# Altium integrated library Lattice iCE40.IntLib: 53 symbols (part 4 of 5)
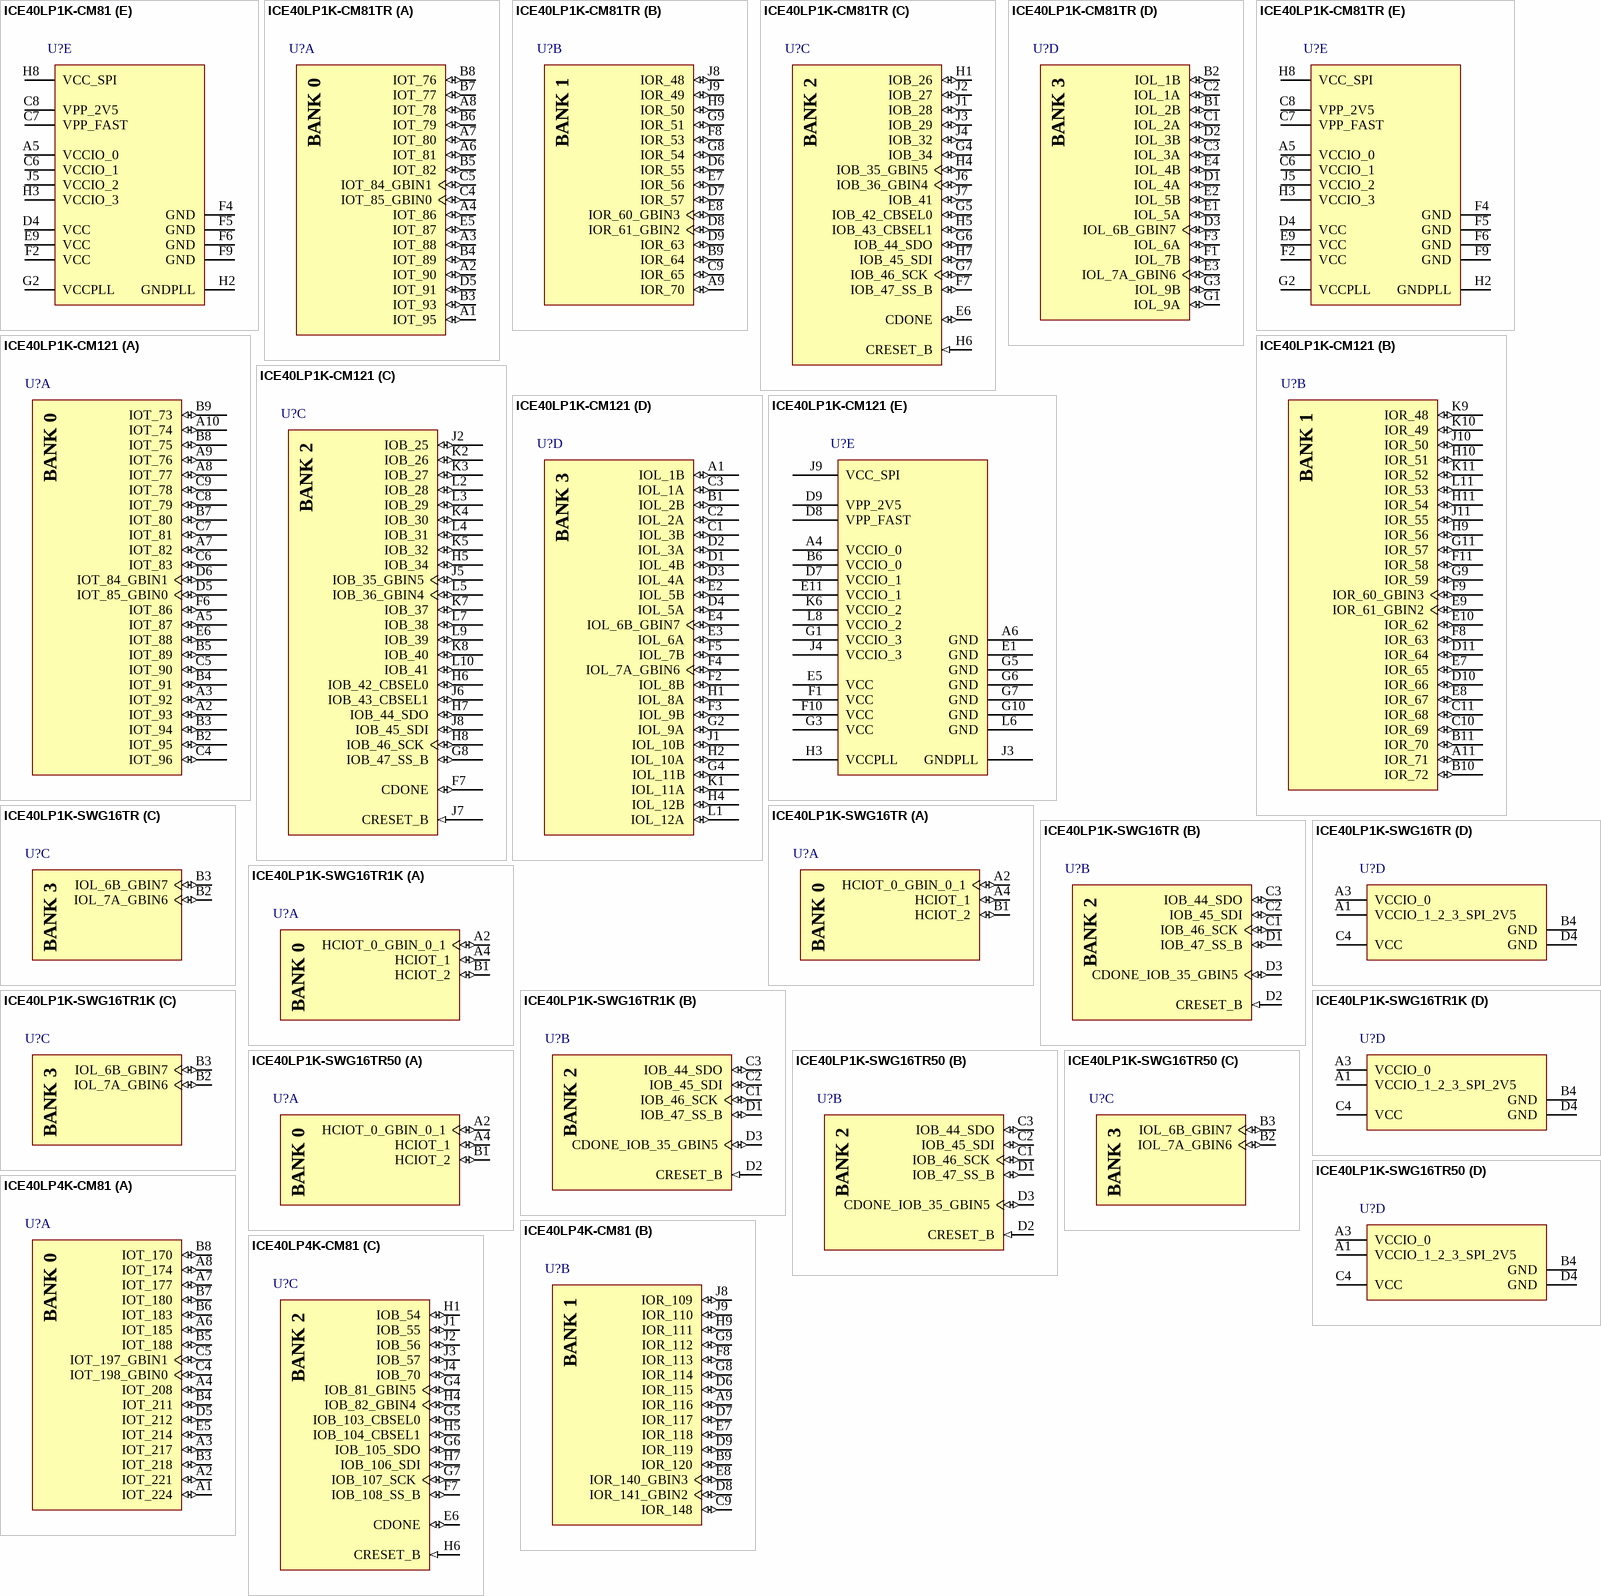
[diagram p14: symbols ICE40LP1K-CM81 to ICE40LP4K-CM81]

## ICE40LP1K-CM121
designator U?
iCE40 LP1K Series FPGA Family, 1280 Logic Cells, 1.2 V Core, 64 K Embedded RAM Bits, 121-ball ucBGA, Pb-Free, Tray; Manufacturer: Lattice Semiconductor; PartNumber: ICE40LP1K-CM121; Embedded RAM Bits: 64K; Logic Cells: 1280; Phase-Locked Loops: 1; Supply Voltage: 1.2 V; DatasheetVersion: Rev. 02.9; PackageVersion: Rev. 03.9, 02/2013; PackageReference: ucBGA-121; PackageDescription: 121-Ball Ultra Chip Ball Grid Array, Body 5 x 5 mm, Pitch 0.4 mm; Supplier 1: Digi-Key; Supplier Part Number 1: 220-1560-ND; Supplier 2: Farnell; Supplier Part Number 2: 2252860; Supplier 3: Newark; Supplier Part Number 3: 48W5880; Supplier 4: Mouser; Supplier Part Number 4: 842-ICE40LP1K-CM121; Packing: Tray; RoHS: TRUE; Mounting Technology: Surface Mount; ComponentLink1Description: Manufacturer URL; ComponentLink1URL: http://www.latticesemi.com/en; ComponentLink2Description: Datasheet; ComponentLink2URL: http://www.latticesemi.com/~/media/Documents/DataSheets/iCE/iCE40LPHXFamilyDataSheet.pdf; ComponentLink3Description: Package Specification; ComponentLink3URL: http://www.latticesemi.com/lit/docs/package/pkg.pdf
footprint LATC-ucBGA-121 (BGA, 121-Balls, Body 5x5mm, Pitch 0.4mm)
part A pins: A2 IOT_93 (io), A3 IOT_92 (io), A5 IOT_87 (io), A7 IOT_82 (io), A8 IOT_77 (io), A9 IOT_76 (io), A10 IOT_74 (io), B2 IOT_95 (io), B3 IOT_94 (io), B4 IOT_91 (io), B5 IOT_89 (io), B7 IOT_80 (io), B8 IOT_75 (io), B9 IOT_73 (io), C4 IOT_96 (io), C5 IOT_90 (io), C6 IOT_83 (io), C7 IOT_81 (io), C8 IOT_79 (io), C9 IOT_78 (io), D5 IOT_85_GBIN0 (io), D6 IOT_84_GBIN1 (io), E6 IOT_88 (io), F6 IOT_86 (io)
part B pins: A11 IOR_71 (io), B10 IOR_72 (io), B11 IOR_70 (io), C10 IOR_69 (io), C11 IOR_68 (io), D10 IOR_66 (io), D11 IOR_64 (io), E7 IOR_65 (io), E8 IOR_67 (io), E9 IOR_61_GBIN2 (io), E10 IOR_62 (io), F8 IOR_63 (io), F9 IOR_60_GBIN3 (io), F11 IOR_58 (io), G9 IOR_59 (io), G11 IOR_57 (io), H9 IOR_56 (io), H10 IOR_51 (io), H11 IOR_54 (io), J10 IOR_50 (io), J11 IOR_55 (io), K9 IOR_48 (io), K10 IOR_49 (io), K11 IOR_52 (io), L11 IOR_53 (io)
part C pins: F7 CDONE (io) "Configuration Done. Includes a permanent weak pull-up resistor to VCCIO_2. If driving external devices with CDONE output, an external pull-up resistor to VCCIO_2 may be required. Refer to the TN1248, iCE40 Programming and (See Datasheet)", G8 IOB_47_SS_B (io), H5 IOB_34 (io), H6 IOB_42_CBSEL0 (io), H7 IOB_44_SDO (io), H8 IOB_46_SCK (io), J2 IOB_25 (io), J5 IOB_35_GBIN5 (io), J6 IOB_43_CBSEL1 (io), J7 CRESET_B (in) "Configuration Reset, active Low. Dedicated input. No internal pull-up resistor. Either actively drive externally or connect a 10 KOhm pull-up resistor to VCCIO_2.", J8 IOB_45_SDI (io), K2 IOB_26 (io), K3 IOB_27 (io), K4 IOB_30 (io), K5 IOB_32 (io), K7 IOB_37 (io), K8 IOB_40 (io), L2 IOB_28 (io), L3 IOB_29 (io), L4 IOB_31 (io), L5 IOB_36_GBIN4 (io), L7 IOB_38 (io), L9 IOB_39 (io), L10 IOB_41 (io)
part D pins: A1 IOL_1B (io), B1 IOL_2B (io), C1 IOL_3B (io), C2 IOL_2A (io), C3 IOL_1A (io), D1 IOL_4B (io), D2 IOL_3A (io), D3 IOL_4A (io), D4 IOL_5A (io), E2 IOL_5B (io), E3 IOL_6A (io), E4 IOL_6B_GBIN7 (io), F2 IOL_8B (io), F3 IOL_9B (io), F4 IOL_7A_GBIN6 (io), F5 IOL_7B (io), G2 IOL_9A (io), G4 IOL_11B (io), H1 IOL_8A (io), H2 IOL_10A (io), H4 IOL_12B (io), J1 IOL_10B (io), K1 IOL_11A (io), L1 IOL_12A (io)
part E pins: A4 VCCIO_0 (power) "VCCIO - The power supply pins for I/O Bank 0. Dedicated pins. All VCCIOs located in the same bank are tied to the same supply.", A6 GND (power) "GND - Ground. Dedicated pins. It is recommended that all GNDs are tied together.", B6 VCCIO_0 (power) "VCCIO - The power supply pins for I/O Bank 0. Dedicated pins. All VCCIOs located in the same bank are tied to the same supply.", D7 VCCIO_1 (power) "VCCIO - The power supply pins for I/O Bank 1. Dedicated pins. All VCCIOs located in the same bank are tied to the same supply.", D8 VPP_FAST (power) "Optional fast NVCM programming supply. VPP_FAST, used only for fast production programming, must be left floating or unconnected in applications, except CM36 and CM49 packages MUST have the VPP_FAST ball connected to VCCIO_0 (See Datasheet)", D9 VPP_2V5 (power) "VPP_2V5 NVCM programming and operating supply", E1 GND (power) "GND - Ground. Dedicated pins. It is recommended that all GNDs are tied together.", E5 VCC (power) "VCC - The power supply pins for core logic. Dedicated pins. It is recommended that all VCCs are tied to the same supply.", E11 VCCIO_1 (power) "VCCIO - The power supply pins for I/O Bank 1. Dedicated pins. All VCCIOs located in the same bank are tied to the same supply.", F1 VCC (power) "VCC - The power supply pins for core logic. Dedicated pins. It is recommended that all VCCs are tied to the same supply.", F10 VCC (power) "VCC - The power supply pins for core logic. Dedicated pins. It is recommended that all VCCs are tied to the same supply.", G1 VCCIO_3 (power) "VCCIO - The power supply pins for I/O Bank 3. Dedicated pins. All VCCIOs located in the same bank are tied to the same supply.", G3 VCC (power) "VCC - The power supply pins for core logic. Dedicated pins. It is recommended that all VCCs are tied to the same supply.", G5 GND (power) "GND - Ground. Dedicated pins. It is recommended that all GNDs are tied together.", G6 GND (power) "GND - Ground. Dedicated pins. It is recommended that all GNDs are tied together.", G7 GND (power) "GND - Ground. Dedicated pins. It is recommended that all GNDs are tied together.", G10 GND (power) "GND - Ground. Dedicated pins. It is recommended that all GNDs are tied together.", H3 VCCPLL (power) "PLL VCC - Power. Dedicated pins. The PLL requires a separate power and ground that is quiet and stable to reduce the output clock jitter of the PLL.", J3 GNDPLL (power) "PLL GND - Ground. Dedicated pins. The sysCLOCK PLL has the DC ground connection made on the FPGA, so the external PLL ground connection (GNDPLL) must NOT be connected to the board’s ground.", J4 VCCIO_3 (power) "VCCIO - The power supply pins for I/O Bank 3. Dedicated pins. All VCCIOs located in the same bank are tied to the same supply.", J9 VCC_SPI (power) "SPI interface voltage supply input. Must have a valid voltage even if configuring from NVCM.", K6 VCCIO_2 (power) "VCCIO - The power supply pins for I/O Bank 2. Dedicated pins. All VCCIOs located in the same bank are tied to the same supply.", L6 GND (power) "GND - Ground. Dedicated pins. It is recommended that all GNDs are tied together.", L8 VCCIO_2 (power) "VCCIO - The power supply pins for I/O Bank 2. Dedicated pins. All VCCIOs located in the same bank are tied to the same supply."
part A text: BANK 0
part B text: BANK 1
part C text: BANK 2
part D text: BANK 3

## ICE40LP1K-SWG16TR
designator U?
iCE40 LP1K Series FPGA Family, 1280 Logic Cells, 1.2 V Core, 64 K Embedded RAM Bits, 16-ball WLCSP, Pb-Free, Tape and Reel; Manufacturer: Lattice Semiconductor; PartNumber: ICE40LP1K-SWG16TR; Embedded RAM Bits: 64K; Logic Cells: 1280; Phase-Locked Loops: 1; Supply Voltage: 1.2 V; DatasheetVersion: Rev. 02.9; PackageVersion: Rev. 04.2, 12/2013; PackageReference: WLCSP-16; PackageDescription: 16-Ball Wafer-Level Chip Scale Package, Body 1.4 x 1.48 mm, Pitch 0.35 mm; Supplier 1: Digi-Key; Supplier Part Number 1: ICE40LP1K-SWG16TR-ND; Supplier 2: Mouser; Supplier Part Number 2: 842-ICE40LP1KSWG16TR; Packing: Tape and Reel; RoHS: TRUE; Mounting Technology: Surface Mount; ComponentLink1Description: Manufacturer URL; ComponentLink1URL: http://www.latticesemi.com/en; ComponentLink2Description: Datasheet; ComponentLink2URL: http://www.latticesemi.com/~/media/Documents/DataSheets/iCE/iCE40LPHXFamilyDataSheet.pdf; ComponentLink3Description: Package Specification; ComponentLink3URL: http://www.latticesemi.com/~/media/Documents/DataSheets/PackageDiagrams.pdf
footprint LATC-WLCSP-16 (BGA, 16-Balls, Body 1.48x1.4mm, Pitch 0.35mm)
part A pins: A2 HCIOT_0_GBIN_0_1 (io), A4 HCIOT_1 (io) "High Current IO.", B1 HCIOT_2 (io) "High Current IO."
part B pins: C1 IOB_46_SCK (io), C2 IOB_45_SDI (io), C3 IOB_44_SDO (io), D1 IOB_47_SS_B (io), D2 CRESET_B (in) "Configuration Reset, active Low. Dedicated input. No internal pull-up resistor. Either actively drive externally or connect a 10 KOhm pull-up resistor to VCCIO_2.", D3 CDONE_IOB_35_GBIN5 (io)
part C pins: B2 IOL_7A_GBIN6 (io), B3 IOL_6B_GBIN7 (io)
part D pins: A1 VCCIO_1_2_3_SPI_2V5 (power), A3 VCCIO_0 (power) "VCCIO - The power supply pins for I/O Bank 0. Dedicated pins. All VCCIOs located in the same bank are tied to the same supply.", B4 GND (power) "GND - Ground. Dedicated pins. It is recommended that all GNDs are tied together", C4 VCC (power) "VCC - The power supply pins for core logic. Dedicated pins. It is recommended that all VCCs are tied to the same supply.", D4 GND (power) "GND - Ground. Dedicated pins. It is recommended that all GNDs are tied together"
part A text: BANK 0
part B text: BANK 2
part C text: BANK 3

## ICE40LP1K-SWG16TR1K
designator U?
iCE40 LP1K Series FPGA Family, 1280 Logic Cells, 1.2 V Core, 64 K Embedded RAM Bits, 16-ball WLCSP, Pb-Free, Tape and Reel; Manufacturer: Lattice Semiconductor; PartNumber: ICE40LP1K-SWG16TR1K; Embedded RAM Bits: 64K; Logic Cells: 1280; Phase-Locked Loops: 1; Supply Voltage: 1.2 V; DatasheetVersion: Rev. 02.9; PackageVersion: Rev. 04.2, 12/2013; PackageReference: WLCSP-16; PackageDescription: 16-Ball Wafer-Level Chip Scale Package, Body 1.4 x 1.48 mm, Pitch 0.35 mm; Supplier 1: Digi-Key; Supplier Part Number 1: ICE40LP1K-SWG16TR1K-ND; Supplier 2: Mouser; Supplier Part Number 2: 842-E40LP1KSWG16TR1K; Packing: Tape and Reel; RoHS: TRUE; Mounting Technology: Surface Mount; ComponentLink1Description: Manufacturer URL; ComponentLink1URL: http://www.latticesemi.com/en; ComponentLink2Description: Datasheet; ComponentLink2URL: http://www.latticesemi.com/~/media/Documents/DataSheets/iCE/iCE40LPHXFamilyDataSheet.pdf; ComponentLink3Description: Package Specification; ComponentLink3URL: http://www.latticesemi.com/~/media/Documents/DataSheets/PackageDiagrams.pdf
footprint LATC-WLCSP-16 (BGA, 16-Balls, Body 1.48x1.4mm, Pitch 0.35mm)
part A pins: A2 HCIOT_0_GBIN_0_1 (io), A4 HCIOT_1 (io) "High Current IO.", B1 HCIOT_2 (io) "High Current IO."
part B pins: C1 IOB_46_SCK (io), C2 IOB_45_SDI (io), C3 IOB_44_SDO (io), D1 IOB_47_SS_B (io), D2 CRESET_B (in) "Configuration Reset, active Low. Dedicated input. No internal pull-up resistor. Either actively drive externally or connect a 10 KOhm pull-up resistor to VCCIO_2.", D3 CDONE_IOB_35_GBIN5 (io)
part C pins: B2 IOL_7A_GBIN6 (io), B3 IOL_6B_GBIN7 (io)
part D pins: A1 VCCIO_1_2_3_SPI_2V5 (power), A3 VCCIO_0 (power) "VCCIO - The power supply pins for I/O Bank 0. Dedicated pins. All VCCIOs located in the same bank are tied to the same supply.", B4 GND (power) "GND - Ground. Dedicated pins. It is recommended that all GNDs are tied together", C4 VCC (power) "VCC - The power supply pins for core logic. Dedicated pins. It is recommended that all VCCs are tied to the same supply.", D4 GND (power) "GND - Ground. Dedicated pins. It is recommended that all GNDs are tied together"
part A text: BANK 0
part B text: BANK 2
part C text: BANK 3

## ICE40LP1K-SWG16TR50
designator U?
iCE40 LP1K Series FPGA Family, 1280 Logic Cells, 1.2 V Core, 64 K Embedded RAM Bits, 16-ball WLCSP, Pb-Free, Tape and Reel; Manufacturer: Lattice Semiconductor; PartNumber: ICE40LP1K-SWG16TR50; Embedded RAM Bits: 64K; Logic Cells: 1280; Phase-Locked Loops: 1; Supply Voltage: 1.2 V; DatasheetVersion: Rev. 02.9; PackageVersion: Rev. 04.2, 12/2013; PackageReference: WLCSP-16; PackageDescription: 16-Ball Wafer-Level Chip Scale Package, Body 1.4 x 1.48 mm, Pitch 0.35 mm; Supplier 1: Digi-Key; Supplier Part Number 1: 220-1870-2-ND; Supplier 2: Digi-Key; Supplier Part Number 2: 220-1870-1-ND; Supplier 3: Digi-Key; Supplier Part Number 3: 220-1870-6-ND; Supplier 4: Mouser; Supplier Part Number 4: 842-E40LP1KSWG16TR50; Packing: Tape and Reel; RoHS: TRUE; Mounting Technology: Surface Mount; ComponentLink1Description: Manufacturer URL; ComponentLink1URL: http://www.latticesemi.com/en; ComponentLink2Description: Datasheet; ComponentLink2URL: http://www.latticesemi.com/~/media/Documents/DataSheets/iCE/iCE40LPHXFamilyDataSheet.pdf; ComponentLink3Description: Package Specification; ComponentLink3URL: http://www.latticesemi.com/~/media/Documents/DataSheets/PackageDiagrams.pdf
footprint LATC-WLCSP-16 (BGA, 16-Balls, Body 1.48x1.4mm, Pitch 0.35mm)
part A pins: A2 HCIOT_0_GBIN_0_1 (io), A4 HCIOT_1 (io) "High Current IO.", B1 HCIOT_2 (io) "High Current IO."
part B pins: C1 IOB_46_SCK (io), C2 IOB_45_SDI (io), C3 IOB_44_SDO (io), D1 IOB_47_SS_B (io), D2 CRESET_B (in) "Configuration Reset, active Low. Dedicated input. No internal pull-up resistor. Either actively drive externally or connect a 10 KOhm pull-up resistor to VCCIO_2.", D3 CDONE_IOB_35_GBIN5 (io)
part C pins: B2 IOL_7A_GBIN6 (io), B3 IOL_6B_GBIN7 (io)
part D pins: A1 VCCIO_1_2_3_SPI_2V5 (power), A3 VCCIO_0 (power) "VCCIO - The power supply pins for I/O Bank 0. Dedicated pins. All VCCIOs located in the same bank are tied to the same supply.", B4 GND (power) "GND - Ground. Dedicated pins. It is recommended that all GNDs are tied together", C4 VCC (power) "VCC - The power supply pins for core logic. Dedicated pins. It is recommended that all VCCs are tied to the same supply.", D4 GND (power) "GND - Ground. Dedicated pins. It is recommended that all GNDs are tied together"
part A text: BANK 0
part B text: BANK 2
part C text: BANK 3

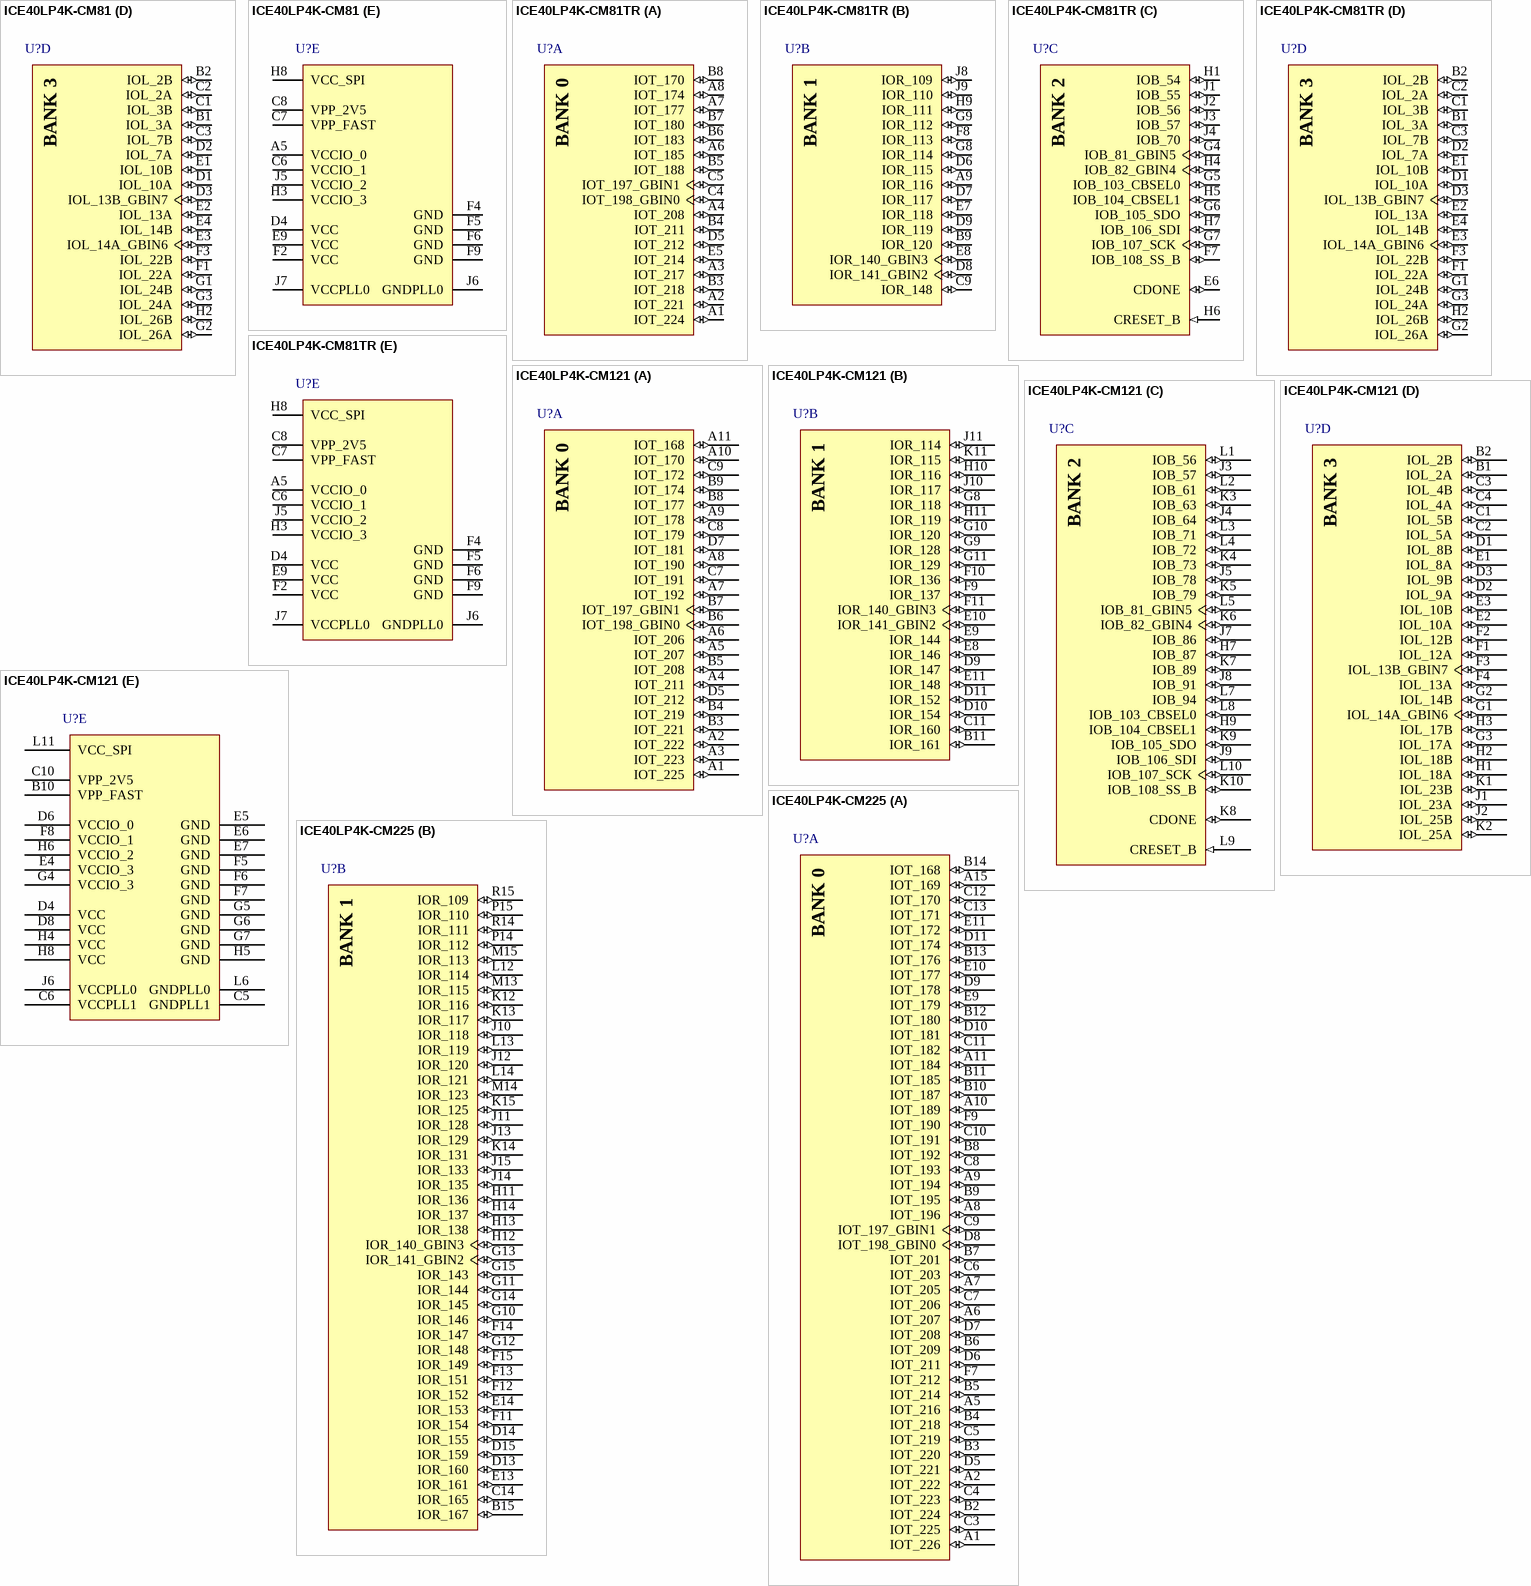
[diagram p8: symbols ICE40LP4K-CM81 to ICE40LP4K-CM225]

## ICE40LP4K-CM81
designator U?
iCE40 LP4K Series FPGA Family, 3520 Logic Cells, 1.2 V Core, 80 K Embedded RAM Bits, 81-ball ucBGA, Pb-Free, Tray; Manufacturer: Lattice Semiconductor; PartNumber: ICE40LP4K-CM81; Embedded RAM Bits: 80K; Logic Cells: 3520; Phase-Locked Loops: 1; Supply Voltage: 1.2 V; DatasheetVersion: Rev. 02.9; PackageVersion: Rev. 03.9, 02/2013; PackageReference: ucBGA-81; PackageDescription: 81-Ball Ultra Chip Ball Grid Array, Body 4 x 4 mm, Pitch 0.4 mm; Supplier 1: Digi-Key; Supplier Part Number 1: 220-1570-ND; Supplier 2: Farnell; Supplier Part Number 2: 2252863; Supplier 3: Newark; Supplier Part Number 3: 48W5883; Supplier 4: Mouser; Supplier Part Number 4: 842-ICE40LP4K-CM81; Packing: Tray; RoHS: TRUE; Mounting Technology: Surface Mount; ComponentLink1Description: Manufacturer URL; ComponentLink1URL: http://www.latticesemi.com/en; ComponentLink2Description: Datasheet; ComponentLink2URL: http://www.latticesemi.com/~/media/Documents/DataSheets/iCE/iCE40LPHXFamilyDataSheet.pdf; ComponentLink3Description: Package Specification; ComponentLink3URL: http://www.latticesemi.com/lit/docs/package/pkg.pdf
footprint LATC-ucBGA-81 (BGA, 81-Balls, Body 4x4mm, Pitch 0.4mm)
part A pins: A1 IOT_224 (io), A2 IOT_221 (io), A3 IOT_217 (io), A4 IOT_208 (io), A6 IOT_185 (io), A7 IOT_177 (io), A8 IOT_174 (io), B3 IOT_218 (io), B4 IOT_211 (io), B5 IOT_188 (io), B6 IOT_183 (io), B7 IOT_180 (io), B8 IOT_170 (io), C4 IOT_198_GBIN0 (io), C5 IOT_197_GBIN1 (io), D5 IOT_212 (io), E5 IOT_214 (io)
part B pins: A9 IOR_116 (io), B9 IOR_120 (io), C9 IOR_148 (io), D6 IOR_115 (io), D7 IOR_117 (io), D8 IOR_141_GBIN2 (io), D9 IOR_119 (io), E7 IOR_118 (io), E8 IOR_140_GBIN3 (io), F8 IOR_113 (io), G8 IOR_114 (io), G9 IOR_112 (io), H9 IOR_111 (io), J8 IOR_109 (io), J9 IOR_110 (io)
part C pins: E6 CDONE (io) "Configuration Done. Includes a permanent weak pull-up resistor to VCCIO_2. If driving external devices with CDONE output, an external pull-up resistor to VCCIO_2 may be required. Refer to the TN1248, iCE40 Programming and (See Datasheet)", F7 IOB_108_SS_B (io), G4 IOB_81_GBIN5 (io), G5 IOB_103_CBSEL0 (io), G6 IOB_105_SDO (io), G7 IOB_107_SCK (io), H1 IOB_54 (io), H4 IOB_82_GBIN4 (io), H5 IOB_104_CBSEL1 (io), H6 CRESET_B (in) "Configuration Reset, active Low. Dedicated input. No internal pull-up resistor. Either actively drive externally or connect a 10 KOhm pull-up resistor to VCCIO_2.", H7 IOB_106_SDI (io), J1 IOB_55 (io), J2 IOB_56 (io), J3 IOB_57 (io), J4 IOB_70 (io)
part D pins: B1 IOL_3A (io), B2 IOL_2B (io), C1 IOL_3B (io), C2 IOL_2A (io), C3 IOL_7B (io), D1 IOL_10A (io), D2 IOL_7A (io), D3 IOL_13B_GBIN7 (io), E1 IOL_10B (io), E2 IOL_13A (io), E3 IOL_14A_GBIN6 (io), E4 IOL_14B (io), F1 IOL_22A (io), F3 IOL_22B (io), G1 IOL_24B (io), G2 IOL_26A (io), G3 IOL_24A (io), H2 IOL_26B (io)
part E pins: A5 VCCIO_0 (power) "VCCIO - The power supply pins for I/O Bank 0. Dedicated pins. All VCCIOs located in the same bank are tied to the same supply", C6 VCCIO_1 (power) "VCCIO - The power supply pins for I/O Bank 1. Dedicated pins. All VCCIOs located in the same bank are tied to the same supply.", C7 VPP_FAST (power) "Optional fast NVCM programming supply. VPP_FAST, used only for fast production programming, must be left floating or unconnected in applications, except CM36 and CM49 packages MUST have the VPP_FAST ball connected to VCCIO_0 (See Datasheet)", C8 VPP_2V5 (power) "VPP_2V5 NVCM programming and operating supply", D4 VCC (power) "VCC - The power supply pins for core logic. Dedicated pins. It is recommended that all VCCs are tied to the same supply.", E9 VCC (power) "VCC - The power supply pins for core logic. Dedicated pins. It is recommended that all VCCs are tied to the same supply.", F2 VCC (power) "VCC - The power supply pins for core logic. Dedicated pins. It is recommended that all VCCs are tied to the same supply.", F4 GND (power) "GND -Ground. Dedicated pins. It is recommended that all GNDs are tied together", F5 GND (power) "GND -Ground. Dedicated pins. It is recommended that all GNDs are tied together", F6 GND (power) "GND -Ground. Dedicated pins. It is recommended that all GNDs are tied together", F9 GND (power) "GND -Ground. Dedicated pins. It is recommended that all GNDs are tied together", H3 VCCIO_3 (power) "VCCIO - The power supply pins for I/O Bank 3. Dedicated pins. All VCCIOs located in the same bank are tied to the same supply", H8 VCC_SPI (power) "SPI interface voltage supply input. Must have a valid voltage even if configuring from NVCM.", J5 VCCIO_2 (power) "VCCIO - The power supply pins for I/O Bank 2. Dedicated pins. All VCCIOs located in the same bank are tied to the same supply.", J6 GNDPLL0 (power) "PLL GND- Ground. Dedicated pins. The sysCLOCK PLL has the DC ground connection made on the FPGA, so the external PLL ground connection (GNDPLL) must NOT be connected to the board’s ground.", J7 VCCPLL0 (power) "PLL VCC - Power. Dedicated pins. The PLL requires a separate power and ground that is quiet and stable to reduce the output clock jitter of the PLL."
part A text: BANK 0
part B text: BANK 1
part C text: BANK 2
part D text: BANK 3

## ICE40LP4K-CM81TR
designator U?
iCE40 LP4K Series FPGA Family, 3520 Logic Cells, 1.2 V Core, 80 K Embedded RAM Bits, 81-ball ucBGA, Pb-Free, Tape and Reel; Manufacturer: Lattice Semiconductor; PartNumber: ICE40LP4K-CM81TR; Embedded RAM Bits: 80K; Logic Cells: 3520; Phase-Locked Loops: 1; Supply Voltage: 1.2 V; DatasheetVersion: Rev. 02.9; PackageVersion: Rev. 03.9, 02/2013; PackageReference: ucBGA-81; PackageDescription: 81-Ball Ultra Chip Ball Grid Array, Body 4 x 4 mm, Pitch 0.4 mm; Supplier 1: Digi-Key; Supplier Part Number 1: ICE40LP4K-CM81TR-ND; Supplier 2: Mouser; Supplier Part Number 2: 842-ICE40LP4K-CM81TR; Packing: Tape and Reel; RoHS: TRUE; Mounting Technology: Surface Mount; ComponentLink1Description: Manufacturer URL; ComponentLink1URL: http://www.latticesemi.com/en; ComponentLink2Description: Datasheet; ComponentLink2URL: http://www.latticesemi.com/~/media/Documents/DataSheets/iCE/iCE40LPHXFamilyDataSheet.pdf; ComponentLink3Description: Package Specification; ComponentLink3URL: http://www.latticesemi.com/lit/docs/package/pkg.pdf
footprint LATC-ucBGA-81 (BGA, 81-Balls, Body 4x4mm, Pitch 0.4mm)
part A pins: A1 IOT_224 (io), A2 IOT_221 (io), A3 IOT_217 (io), A4 IOT_208 (io), A6 IOT_185 (io), A7 IOT_177 (io), A8 IOT_174 (io), B3 IOT_218 (io), B4 IOT_211 (io), B5 IOT_188 (io), B6 IOT_183 (io), B7 IOT_180 (io), B8 IOT_170 (io), C4 IOT_198_GBIN0 (io), C5 IOT_197_GBIN1 (io), D5 IOT_212 (io), E5 IOT_214 (io)
part B pins: A9 IOR_116 (io), B9 IOR_120 (io), C9 IOR_148 (io), D6 IOR_115 (io), D7 IOR_117 (io), D8 IOR_141_GBIN2 (io), D9 IOR_119 (io), E7 IOR_118 (io), E8 IOR_140_GBIN3 (io), F8 IOR_113 (io), G8 IOR_114 (io), G9 IOR_112 (io), H9 IOR_111 (io), J8 IOR_109 (io), J9 IOR_110 (io)
part C pins: E6 CDONE (io) "Configuration Done. Includes a permanent weak pull-up resistor to VCCIO_2. If driving external devices with CDONE output, an external pull-up resistor to VCCIO_2 may be required. Refer to the TN1248, iCE40 Programming and (See Datasheet)", F7 IOB_108_SS_B (io), G4 IOB_81_GBIN5 (io), G5 IOB_103_CBSEL0 (io), G6 IOB_105_SDO (io), G7 IOB_107_SCK (io), H1 IOB_54 (io), H4 IOB_82_GBIN4 (io), H5 IOB_104_CBSEL1 (io), H6 CRESET_B (in) "Configuration Reset, active Low. Dedicated input. No internal pull-up resistor. Either actively drive externally or connect a 10 KOhm pull-up resistor to VCCIO_2.", H7 IOB_106_SDI (io), J1 IOB_55 (io), J2 IOB_56 (io), J3 IOB_57 (io), J4 IOB_70 (io)
part D pins: B1 IOL_3A (io), B2 IOL_2B (io), C1 IOL_3B (io), C2 IOL_2A (io), C3 IOL_7B (io), D1 IOL_10A (io), D2 IOL_7A (io), D3 IOL_13B_GBIN7 (io), E1 IOL_10B (io), E2 IOL_13A (io), E3 IOL_14A_GBIN6 (io), E4 IOL_14B (io), F1 IOL_22A (io), F3 IOL_22B (io), G1 IOL_24B (io), G2 IOL_26A (io), G3 IOL_24A (io), H2 IOL_26B (io)
part E pins: A5 VCCIO_0 (power) "VCCIO - The power supply pins for I/O Bank 0. Dedicated pins. All VCCIOs located in the same bank are tied to the same supply", C6 VCCIO_1 (power) "VCCIO - The power supply pins for I/O Bank 1. Dedicated pins. All VCCIOs located in the same bank are tied to the same supply.", C7 VPP_FAST (power) "Optional fast NVCM programming supply. VPP_FAST, used only for fast production programming, must be left floating or unconnected in applications, except CM36 and CM49 packages MUST have the VPP_FAST ball connected to VCCIO_0 (See Datasheet)", C8 VPP_2V5 (power) "VPP_2V5 NVCM programming and operating supply", D4 VCC (power) "VCC - The power supply pins for core logic. Dedicated pins. It is recommended that all VCCs are tied to the same supply.", E9 VCC (power) "VCC - The power supply pins for core logic. Dedicated pins. It is recommended that all VCCs are tied to the same supply.", F2 VCC (power) "VCC - The power supply pins for core logic. Dedicated pins. It is recommended that all VCCs are tied to the same supply.", F4 GND (power) "GND -Ground. Dedicated pins. It is recommended that all GNDs are tied together", F5 GND (power) "GND -Ground. Dedicated pins. It is recommended that all GNDs are tied together", F6 GND (power) "GND -Ground. Dedicated pins. It is recommended that all GNDs are tied together", F9 GND (power) "GND -Ground. Dedicated pins. It is recommended that all GNDs are tied together", H3 VCCIO_3 (power) "VCCIO - The power supply pins for I/O Bank 3. Dedicated pins. All VCCIOs located in the same bank are tied to the same supply", H8 VCC_SPI (power) "SPI interface voltage supply input. Must have a valid voltage even if configuring from NVCM.", J5 VCCIO_2 (power) "VCCIO - The power supply pins for I/O Bank 2. Dedicated pins. All VCCIOs located in the same bank are tied to the same supply.", J6 GNDPLL0 (power) "PLL GND- Ground. Dedicated pins. The sysCLOCK PLL has the DC ground connection made on the FPGA, so the external PLL ground connection (GNDPLL) must NOT be connected to the board’s ground.", J7 VCCPLL0 (power) "PLL VCC - Power. Dedicated pins. The PLL requires a separate power and ground that is quiet and stable to reduce the output clock jitter of the PLL."
part A text: BANK 0
part B text: BANK 1
part C text: BANK 2
part D text: BANK 3

## ICE40LP4K-CM121
designator U?
iCE40 LP4K Series FPGA Family, 3520 Logic Cells, 1.2 V Core, 80 K Embedded RAM Bits, 121-ball ucBGA, Pb-Free, Tray; Manufacturer: Lattice Semiconductor; PartNumber: ICE40LP4K-CM121; Embedded RAM Bits: 80K; Logic Cells: 3520; Phase-Locked Loops: 2; Supply Voltage: 1.2 V; DatasheetVersion: Rev. 02.9; PackageVersion: Rev. 03.9, 02/2013; PackageReference: ucBGA-121; PackageDescription: 121-Ball Ultra Chip Ball Grid Array, Body 5 x 5 mm, Pitch 0.4 mm; Supplier 1: Digi-Key; Supplier Part Number 1: 220-1569-ND; Supplier 2: Farnell; Supplier Part Number 2: 2252862; Supplier 3: Newark; Supplier Part Number 3: 48W5882; Supplier 4: Mouser; Supplier Part Number 4: 842-ICE40LP4K-CM121; Packing: Tray; RoHS: TRUE; Mounting Technology: Surface Mount; ComponentLink1Description: Manufacturer URL; ComponentLink1URL: http://www.latticesemi.com/en; ComponentLink2Description: Datasheet; ComponentLink2URL: http://www.latticesemi.com/~/media/Documents/DataSheets/iCE/iCE40LPHXFamilyDataSheet.pdf; ComponentLink3Description: Package Specification; ComponentLink3URL: http://www.latticesemi.com/lit/docs/package/pkg.pdf
footprint LATC-ucBGA-121 (BGA, 121-Balls, Body 5x5mm, Pitch 0.4mm)
part A pins: A1 IOT_225 (io), A2 IOT_222 (io), A3 IOT_223 (io), A4 IOT_211 (io), A5 IOT_207 (io), A6 IOT_206 (io), A7 IOT_192 (io), A8 IOT_190 (io), A9 IOT_178 (io), A10 IOT_170 (io), A11 IOT_168 (io), B3 IOT_221 (io), B4 IOT_219 (io), B5 IOT_208 (io), B6 IOT_198_GBIN0 (io), B7 IOT_197_GBIN1 (io), B8 IOT_177 (io), B9 IOT_174 (io), C7 IOT_191 (io), C8 IOT_179 (io), C9 IOT_172 (io), D5 IOT_212 (io), D7 IOT_181 (io)
part B pins: B11 IOR_161 (io), C11 IOR_160 (io), D9 IOR_147 (io), D10 IOR_154 (io), D11 IOR_152 (io), E8 IOR_146 (io), E9 IOR_144 (io), E10 IOR_141_GBIN2 (io), E11 IOR_148 (io), F9 IOR_137 (io), F10 IOR_136 (io), F11 IOR_140_GBIN3 (io), G8 IOR_118 (io), G9 IOR_128 (io), G10 IOR_120 (io), G11 IOR_129 (io), H10 IOR_116 (io), H11 IOR_119 (io), J10 IOR_117 (io), J11 IOR_114 (io), K11 IOR_115 (io)
part C pins: H7 IOB_87 (io), H9 IOB_104_CBSEL1 (io), J3 IOB_57 (io), J4 IOB_64 (io), J5 IOB_78 (io), J7 IOB_86 (io), J8 IOB_91 (io), J9 IOB_106_SDI (io), K3 IOB_63 (io), K4 IOB_73 (io), K5 IOB_79 (io), K6 IOB_82_GBIN4 (io), K7 IOB_89 (io), K8 CDONE (io) "Configuration Done. Includes a permanent weak pull-up resistor to VCCIO_2. If driving external devices with CDONE output, an external pull-up resistor to VCCIO_2 may be required. Refer to the TN1248, iCE40 Programming and (See Datasheet)", K9 IOB_105_SDO (io), K10 IOB_108_SS_B (io), L1 IOB_56 (io), L2 IOB_61 (io), L3 IOB_71 (io), L4 IOB_72 (io), L5 IOB_81_GBIN5 (io), L7 IOB_94 (io), L8 IOB_103_CBSEL0 (io), L9 CRESET_B (in) "Configuration Reset, active Low. Dedicated input. No internal pull-up resistor. Either actively drive externally or connect a 10 KOhm pull-up resistor to VCCIO_2.", L10 IOB_107_SCK (io)
part D pins: B1 IOL_2A (io), B2 IOL_2B (io), C1 IOL_5B (io), C2 IOL_5A (io), C3 IOL_4B (io), C4 IOL_4A (io), D1 IOL_8B (io), D2 IOL_9A (io), D3 IOL_9B (io), E1 IOL_8A (io), E2 IOL_10A (io), E3 IOL_10B (io), F1 IOL_12A (io), F2 IOL_12B (io), F3 IOL_13B_GBIN7 (io), F4 IOL_13A (io), G1 IOL_14A_GBIN6 (io), G2 IOL_14B (io), G3 IOL_17A (io), H1 IOL_18A (io), H2 IOL_18B (io), H3 IOL_17B (io), J1 IOL_23A (io), J2 IOL_25B (io), K1 IOL_23B (io), K2 IOL_25A (io)
part E pins: B10 VPP_FAST (power) "Optional fast NVCM programming supply. VPP_FAST, used only for fast production programming, must be left floating or unconnected in applications, except CM36 and CM49 packages MUST have the VPP_FAST ball connected to VCCIO_0 (See Datasheet)", C5 GNDPLL1 (power) "PLL GND - Ground. Dedicated pins. The sysCLOCK PLL has the DC ground connection made on the FPGA, so the external PLL ground connection (GNDPLL) must NOT be connected to the board’s ground.", C6 VCCPLL1 (power) "PLL VCC - Power. Dedicated pins. The PLL requires a separate power and ground that is quiet and stable to reduce the output clock jitter of the PLL.", C10 VPP_2V5 (power) "VPP_2V5 NVCM programming and operating supply", D4 VCC (power) "VCC - The power supply pins for core logic. Dedicated pins. It is recommended that all VCCs are tied to the same supply.", D6 VCCIO_0 (power) "VCCIO - The power supply pins for I/O Bank 0. Dedicated pins. All VCCIOs located in the same bank are tied to the same supply.", D8 VCC (power) "VCC - The power supply pins for core logic. Dedicated pins. It is recommended that all VCCs are tied to the same supply.", E4 VCCIO_3 (power) "VCCIO - The power supply pins for I/O Bank 3. Dedicated pins. All VCCIOs located in the same bank are tied to the same supply.", E5 GND (power) "GND - Ground. Dedicated pins. It is recommended that all GNDs are tied together.", E6 GND (power) "GND - Ground. Dedicated pins. It is recommended that all GNDs are tied together.", E7 GND (power) "GND - Ground. Dedicated pins. It is recommended that all GNDs are tied together.", F5 GND (power) "GND - Ground. Dedicated pins. It is recommended that all GNDs are tied together.", F6 GND (power) "GND - Ground. Dedicated pins. It is recommended that all GNDs are tied together.", F7 GND (power) "GND - Ground. Dedicated pins. It is recommended that all GNDs are tied together.", F8 VCCIO_1 (power) "VCCIO - The power supply pins for I/O Bank 1. Dedicated pins. All VCCIOs located in the same bank are tied to the same supply.", G4 VCCIO_3 (power) "VCCIO - The power supply pins for I/O Bank 3. Dedicated pins. All VCCIOs located in the same bank are tied to the same supply.", G5 GND (power) "GND - Ground. Dedicated pins. It is recommended that all GNDs are tied together.", G6 GND (power) "GND - Ground. Dedicated pins. It is recommended that all GNDs are tied together.", G7 GND (power) "GND - Ground. Dedicated pins. It is recommended that all GNDs are tied together.", H4 VCC (power) "VCC - The power supply pins for core logic. Dedicated pins. It is recommended that all VCCs are tied to the same supply.", H5 GND (power) "GND - Ground. Dedicated pins. It is recommended that all GNDs are tied together.", H6 VCCIO_2 (power) "VCCIO - The power supply pins for I/O Bank 2. Dedicated pins. All VCCIOs located in the same bank are tied to the same supply.", H8 VCC (power) "VCC - The power supply pins for core logic. Dedicated pins. It is recommended that all VCCs are tied to the same supply.", J6 VCCPLL0 (power) "PLL VCC - Power. Dedicated pins. The PLL requires a separate power and ground that is quiet and stable to reduce the output clock jitter of the PLL.", L6 GNDPLL0 (power) "PLL GND - Ground. Dedicated pins. The sysCLOCK PLL has the DC ground connection made on the FPGA, so the external PLL ground connection (GNDPLL) must NOT be connected to the board’s ground.", L11 VCC_SPI (power) "SPI interface voltage supply input. Must have a valid voltage even if configuring from NVCM."
part A text: BANK 0
part B text: BANK 1
part C text: BANK 2
part D text: BANK 3

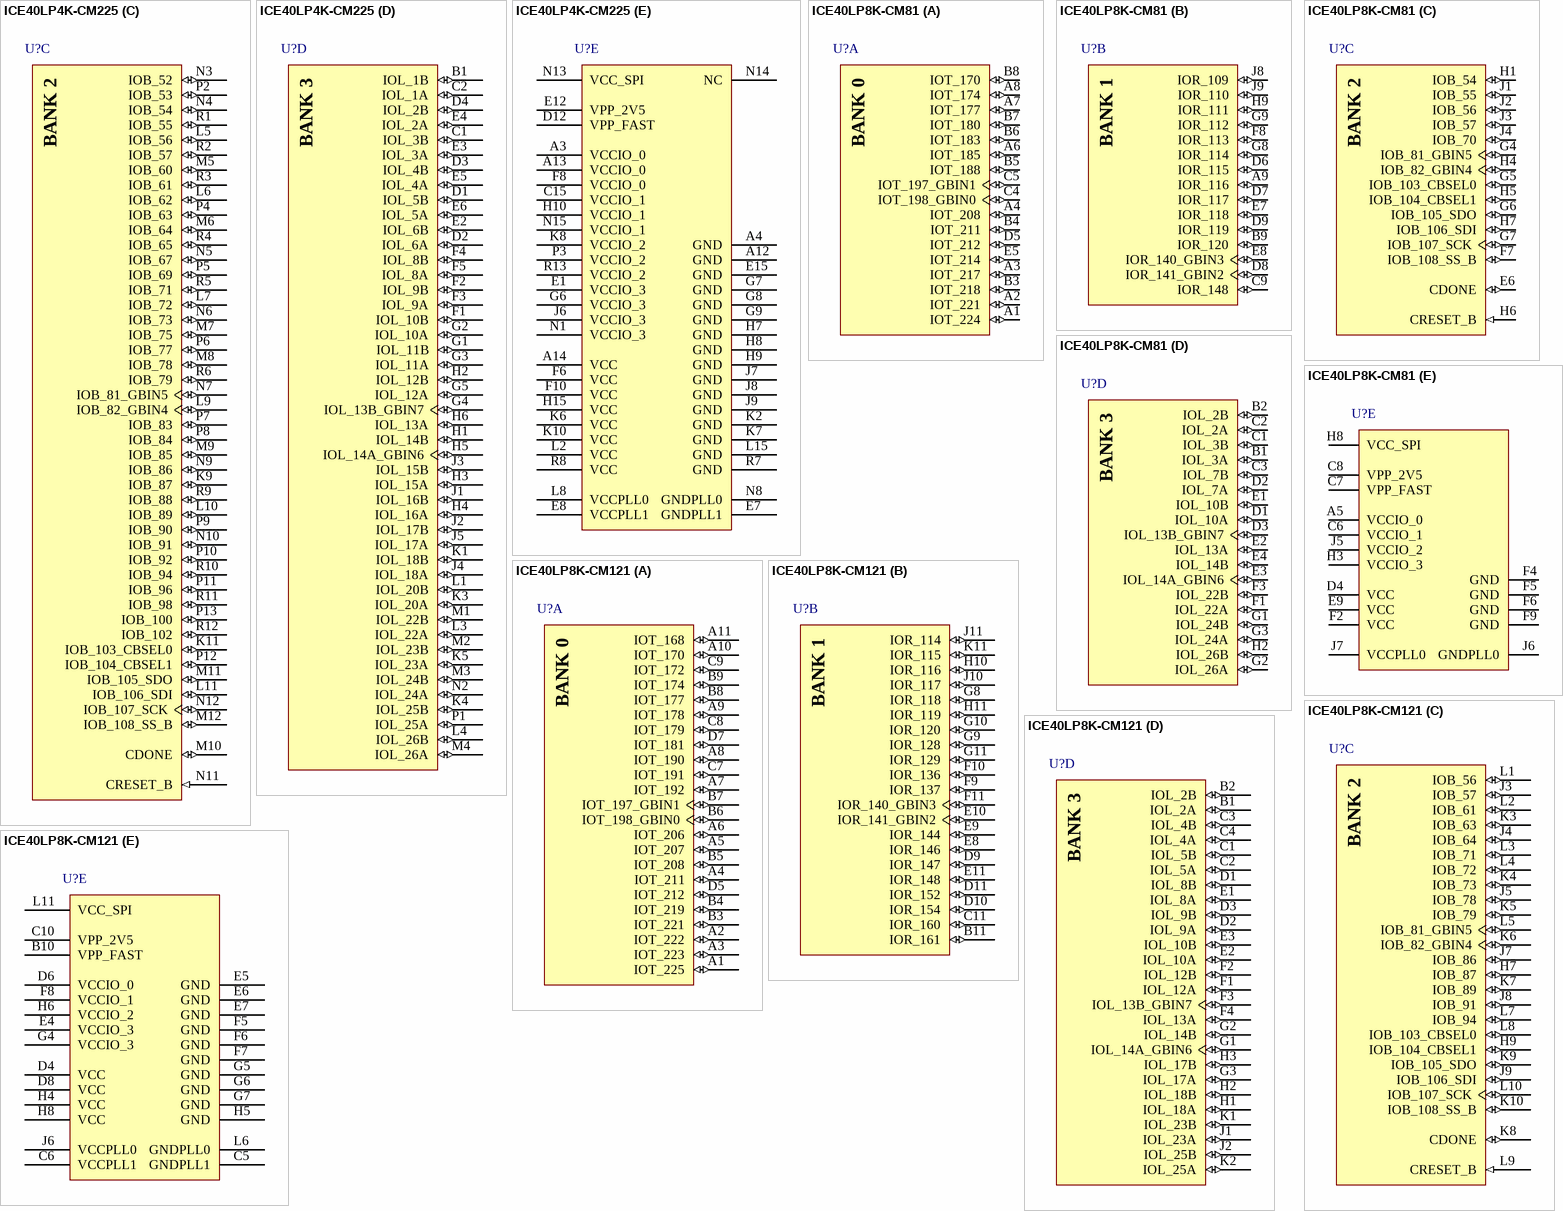
[diagram p9: symbols ICE40LP4K-CM225 to ICE40LP8K-CM121]

## ICE40LP4K-CM225
designator U?
iCE40 LP4K Series FPGA Family, 3520 Logic Cells, 1.2 V Core, 80 K Embedded RAM Bits, 225-ball ucBGA, Pb-Free, Tray; Manufacturer: Lattice Semiconductor; PartNumber: ICE40LP4K-CM225; Embedded RAM Bits: 80K; Logic Cells: 3520; Phase-Locked Loops: 2; Supply Voltage: 1.2 V; DatasheetVersion: Rev. 02.9; PackageVersion: Rev. 03.9, 02/2013; PackageReference: ucBGA-225; PackageDescription: 225-Ball Ultra Chip Ball Grid Array, Body 7 x 7 mm, Pitch 0.4 mm; Supplier 1: Digi-Key; Supplier Part Number 1: 220-1568-ND; Supplier 2: Mouser; Supplier Part Number 2: 842-ICE40LP4K-CM225; Packing: Tray; RoHS: TRUE; Mounting Technology: Surface Mount; ComponentLink1Description: Manufacturer URL; ComponentLink1URL: http://www.latticesemi.com/en; ComponentLink2Description: Datasheet; ComponentLink2URL: http://www.latticesemi.com/~/media/Documents/DataSheets/iCE/iCE40LPHXFamilyDataSheet.pdf; ComponentLink3Description: Package Specification; ComponentLink3URL: http://www.latticesemi.com/lit/docs/package/pkg.pdf
footprint LATC-ucBGA-225 (BGA, 225-Balls, Body 7x7mm, Pitch 0.4mm)
part A pins: A1 IOT_226 (io), A2 IOT_222 (io), A5 IOT_216 (io), A6 IOT_207 (io), A7 IOT_205 (io), A8 IOT_196 (io), A9 IOT_194 (io), A10 IOT_189 (io), A11 IOT_184 (io), A15 IOT_169 (io), B2 IOT_224 (io), B3 IOT_220 (io), B4 IOT_218 (io), B5 IOT_214 (io), B6 IOT_209 (io), B7 IOT_201 (io), B8 IOT_192 (io), B9 IOT_195 (io), B10 IOT_187 (io), B11 IOT_185 (io), B12 IOT_180 (io), B13 IOT_176 (io), B14 IOT_168 (io), C3 IOT_225 (io), C4 IOT_223 (io), C5 IOT_219 (io), C6 IOT_203 (io), C7 IOT_206 (io), C8 IOT_193 (io), C9 IOT_197_GBIN1 (io), C10 IOT_191 (io), C11 IOT_182 (io), C12 IOT_170 (io), C13 IOT_171 (io), D5 IOT_221 (io), D6 IOT_211 (io), D7 IOT_208 (io), D8 IOT_198_GBIN0 (io), D9 IOT_178 (io), D10 IOT_181 (io), D11 IOT_174 (io), E9 IOT_179 (io), E10 IOT_177 (io), E11 IOT_172 (io), F7 IOT_212 (io), F9 IOT_190 (io)
part B pins: B15 IOR_167 (io), C14 IOR_165 (io), D13 IOR_160 (io), D14 IOR_155 (io), D15 IOR_159 (io), E13 IOR_161 (io), E14 IOR_153 (io), F11 IOR_154 (io), F12 IOR_152 (io), F13 IOR_151 (io), F14 IOR_147 (io), F15 IOR_149 (io), G10 IOR_146 (io), G11 IOR_144 (io), G12 IOR_148 (io), G13 IOR_141_GBIN2 (io), G14 IOR_145 (io), G15 IOR_143 (io), H11 IOR_136 (io), H12 IOR_140_GBIN3 (io), H13 IOR_138 (io), H14 IOR_137 (io), J10 IOR_118 (io), J11 IOR_128 (io), J12 IOR_120 (io), J13 IOR_129 (io), J14 IOR_135 (io), J15 IOR_133 (io), K12 IOR_116 (io), K13 IOR_117 (io), K14 IOR_131 (io), K15 IOR_125 (io), L12 IOR_114 (io), L13 IOR_119 (io), L14 IOR_121 (io), M13 IOR_115 (io), M14 IOR_123 (io), M15 IOR_113 (io), P14 IOR_112 (io), P15 IOR_110 (io), R14 IOR_111 (io), R15 IOR_109 (io)
part C pins: K9 IOB_87 (io), K11 IOB_103_CBSEL0 (io), L5 IOB_56 (io), L6 IOB_62 (io), L7 IOB_72 (io), L9 IOB_82_GBIN4 (io), L10 IOB_89 (io), L11 IOB_106_SDI (io), M5 IOB_60 (io), M6 IOB_64 (io), M7 IOB_75 (io), M8 IOB_78 (io), M9 IOB_85 (io), M10 CDONE (io) "Configuration Done. Includes a weak pull-up resistor to VCCIO_2.", M11 IOB_105_SDO (io), M12 IOB_108_SS_B (io), N3 IOB_52 (io), N4 IOB_54 (io), N5 IOB_67 (io), N6 IOB_73 (io), N7 IOB_81_GBIN5 (io), N9 IOB_86 (io), N10 IOB_91 (io), N11 CRESET_B (in) "Configuration Reset, active Low. Dedicated input. No internal pull-up resistor. Either actively drive externally or connect a 10 KOhm pull-up resistor to VCCIO_2.", N12 IOB_107_SCK (io), P2 IOB_53 (io), P4 IOB_63 (io), P5 IOB_69 (io), P6 IOB_77 (io), P7 IOB_83 (io), P8 IOB_84 (io), P9 IOB_90 (io), P10 IOB_92 (io), P11 IOB_96 (io), P12 IOB_104_CBSEL1 (io), P13 IOB_100 (io), R1 IOB_55 (io), R2 IOB_57 (io), R3 IOB_61 (io), R4 IOB_65 (io), R5 IOB_71 (io), R6 IOB_79 (io), R9 IOB_88 (io), R10 IOB_94 (io), R11 IOB_98 (io), R12 IOB_102 (io)
part D pins: B1 IOL_1B (io), C1 IOL_3B (io), C2 IOL_1A (io), D1 IOL_5B (io), D2 IOL_6A (io), D3 IOL_4B (io), D4 IOL_2B (io), E2 IOL_6B (io), E3 IOL_3A (io), E4 IOL_2A (io), E5 IOL_4A (io), E6 IOL_5A (io), F1 IOL_10B (io), F2 IOL_9B (io), F3 IOL_9A (io), F4 IOL_8B (io), F5 IOL_8A (io), G1 IOL_11B (io), G2 IOL_10A (io), G3 IOL_11A (io), G4 IOL_13B_GBIN7 (io), G5 IOL_12A (io), H1 IOL_14B (io), H2 IOL_12B (io), H3 IOL_15A (io), H4 IOL_16A (io), H5 IOL_14A_GBIN6 (io), H6 IOL_13A (io), J1 IOL_16B (io), J2 IOL_17B (io), J3 IOL_15B (io), J4 IOL_18A (io), J5 IOL_17A (io), K1 IOL_18B (io), K3 IOL_20A (io), K4 IOL_25B (io), K5 IOL_23A (io), L1 IOL_20B (io), L3 IOL_22A (io), L4 IOL_26B (io), M1 IOL_22B (io), M2 IOL_23B (io), M3 IOL_24B (io), M4 IOL_26A (io), N2 IOL_24A (io), P1 IOL_25A (io)
part E pins: A3 VCCIO_0 (power) "VCCIO - The power supply pins for I/O Bank 0. Dedicated pins. All VCCIOs located in the same bank are tied to the same supply.", A4 GND (power) "GND - Ground. Dedicated pins. It is recommended that all GNDs are tied together.", A12 GND (power) "GND - Ground. Dedicated pins. It is recommended that all GNDs are tied together.", A13 VCCIO_0 (power) "VCCIO - The power supply pins for I/O Bank 0. Dedicated pins. All VCCIOs located in the same bank are tied to the same supply.", A14 VCC (power) "VCC - The power supply pins for core logic. Dedicated pins. It is recommended that all VCCs are tied to the same supply.", C15 VCCIO_1 (power) "VCCIO - The power supply pins for I/O Bank 1. Dedicated pins. All VCCIOs located in the same bank are tied to the same supply.", D12 VPP_FAST (power) "Optional fast NVCM programming supply. VPP_FAST, used only for fast production programming, must be left floating or unconnected in applications, except CM36 and CM49 packages MUST have the VPP_FAST ball connected to VCCIO_0 (See Datasheet)", E1 VCCIO_3 (power) "VCCIO - The power supply pins for I/O Bank 3. Dedicated pins. All VCCIOs located in the same bank are tied to the same supply.", E7 GNDPLL1 (power) "PLL GND - Ground. Dedicated pins. The sysCLOCK PLL has the DC ground connection made on the FPGA, so the external PLL ground connection (GNDPLL) must NOT be connected to the board’s ground.", E8 VCCPLL1 (power) "PLL VCC - Power. Dedicated pins. The PLL requires a separate power and ground that is quiet and stable to reduce the output clock jitter of the PLL.", E12 VPP_2V5 (power) "VPP_2V5 NVCM programming and operating supply", E15 GND (power) "GND - Ground. Dedicated pins. It is recommended that all GNDs are tied together.", F6 VCC (power) "VCC - The power supply pins for core logic. Dedicated pins. It is recommended that all VCCs are tied to the same supply.", F8 VCCIO_0 (power) "VCCIO - The power supply pins for I/O Bank 0. Dedicated pins. All VCCIOs located in the same bank are tied to the same supply.", F10 VCC (power) "VCC - The power supply pins for core logic. Dedicated pins. It is recommended that all VCCs are tied to the same supply.", G6 VCCIO_3 (power) "VCCIO - The power supply pins for I/O Bank 3. Dedicated pins. All VCCIOs located in the same bank are tied to the same supply.", G7 GND (power) "GND - Ground. Dedicated pins. It is recommended that all GNDs are tied together.", G8 GND (power) "GND - Ground. Dedicated pins. It is recommended that all GNDs are tied together.", G9 GND (power) "GND - Ground. Dedicated pins. It is recommended that all GNDs are tied together.", H7 GND (power) "GND - Ground. Dedicated pins. It is recommended that all GNDs are tied together.", H8 GND (power) "GND - Ground. Dedicated pins. It is recommended that all GNDs are tied together.", H9 GND (power) "GND - Ground. Dedicated pins. It is recommended that all GNDs are tied together.", H10 VCCIO_1 (power) "VCCIO - The power supply pins for I/O Bank 1. Dedicated pins. All VCCIOs located in the same bank are tied to the same supply.", H15 VCC (power) "VCC - The power supply pins for core logic. Dedicated pins. It is recommended that all VCCs are tied to the same supply.", J6 VCCIO_3 (power) "VCCIO - The power supply pins for I/O Bank 3. Dedicated pins. All VCCIOs located in the same bank are tied to the same supply.", J7 GND (power) "GND - Ground. Dedicated pins. It is recommended that all GNDs are tied together.", J8 GND (power) "GND - Ground. Dedicated pins. It is recommended that all GNDs are tied together.", J9 GND (power) "GND - Ground. Dedicated pins. It is recommended that all GNDs are tied together.", K2 GND (power) "GND - Ground. Dedicated pins. It is recommended that all GNDs are tied together.", K6 VCC (power) "VCC - The power supply pins for core logic. Dedicated pins. It is recommended that all VCCs are tied to the same supply.", K7 GND (power) "GND - Ground. Dedicated pins. It is recommended that all GNDs are tied together.", K8 VCCIO_2 (power) "VCCIO - The power supply pins for I/O Bank 2. Dedicated pins. All VCCIOs located in the same bank are tied to the same supply.", K10 VCC (power) "VCC - The power supply pins for core logic. Dedicated pins. It is recommended that all VCCs are tied to the same supply.", L2 VCC (power) "VCC - The power supply pins for core logic. Dedicated pins. It is recommended that all VCCs are tied to the same supply.", L8 VCCPLL0 (power) "PLL VCC - Power. Dedicated pins. The PLL requires a separate power and ground that is quiet and stable to reduce the output clock jitter of the PLL.", L15 GND (power) "GND - Ground. Dedicated pins. It is recommended that all GNDs are tied together.", N1 VCCIO_3 (power) "VCCIO - The power supply pins for I/O Bank 3. Dedicated pins. All VCCIOs located in the same bank are tied to the same supply.", N8 GNDPLL0 (power) "PLL GND - Ground. Dedicated pins. The sysCLOCK PLL has the DC ground connection made on the FPGA, so the external PLL ground connection (GNDPLL) must NOT be connected to the board’s ground.", N13 VCC_SPI (power) "SPI interface voltage supply input. Must have a valid voltage even if configuring from NVCM.", N14 NC "No connect", N15 VCCIO_1 (power) "VCCIO - The power supply pins for I/O Bank 1. Dedicated pins. All VCCIOs located in the same bank are tied to the same supply.", P3 VCCIO_2 (power) "VCCIO - The power supply pins for I/O Bank 2. Dedicated pins. All VCCIOs located in the same bank are tied to the same supply.", R7 GND (power) "GND - Ground. Dedicated pins. It is recommended that all GNDs are tied together.", R8 VCC (power) "VCC - The power supply pins for core logic. Dedicated pins. It is recommended that all VCCs are tied to the same supply.", R13 VCCIO_2 (power) "VCCIO - The power supply pins for I/O Bank 2. Dedicated pins. All VCCIOs located in the same bank are tied to the same supply."
part A text: BANK 0
part B text: BANK 1
part C text: BANK 2
part D text: BANK 3

## ICE40LP8K-CM81
designator U?
iCE40 LP8K Series FPGA Family, 7680 Logic Cells, 1.2 V Core, 128 K Embedded RAM Bits, 81-ball ucBGA, Pb-Free, Tray; Manufacturer: Lattice Semiconductor; PartNumber: ICE40LP8K-CM81; Embedded RAM Bits: 128K; Logic Cells: 7680; Phase-Locked Loops: 1; Supply Voltage: 1.2 V; DatasheetVersion: Rev. 02.9; PackageVersion: Rev. 03.9, 02/2013; PackageReference: ucBGA-81; PackageDescription: 81-Ball Ultra Chip Ball Grid Array, Body 4 x 4 mm, Pitch 0.4 mm; Supplier 1: Digi-Key; Supplier Part Number 1: 220-1858-ND; Supplier 2: Mouser; Supplier Part Number 2: 842-ICE40LP8K-CM81; Packing: Tray; RoHS: TRUE; Mounting Technology: Surface Mount; ComponentLink1Description: Manufacturer URL; ComponentLink1URL: http://www.latticesemi.com/en; ComponentLink2Description: Datasheet; ComponentLink2URL: http://www.latticesemi.com/~/media/Documents/DataSheets/iCE/iCE40LPHXFamilyDataSheet.pdf; ComponentLink3Description: Package Specification; ComponentLink3URL: http://www.latticesemi.com/lit/docs/package/pkg.pdf
footprint LATC-ucBGA-81 (BGA, 81-Balls, Body 4x4mm, Pitch 0.4mm)
part A pins: A1 IOT_224 (io), A2 IOT_221 (io), A3 IOT_217 (io), A4 IOT_208 (io), A6 IOT_185 (io), A7 IOT_177 (io), A8 IOT_174 (io), B3 IOT_218 (io), B4 IOT_211 (io), B5 IOT_188 (io), B6 IOT_183 (io), B7 IOT_180 (io), B8 IOT_170 (io), C4 IOT_198_GBIN0 (io), C5 IOT_197_GBIN1 (io), D5 IOT_212 (io), E5 IOT_214 (io)
part B pins: A9 IOR_116 (io), B9 IOR_120 (io), C9 IOR_148 (io), D6 IOR_115 (io), D7 IOR_117 (io), D8 IOR_141_GBIN2 (io), D9 IOR_119 (io), E7 IOR_118 (io), E8 IOR_140_GBIN3 (io), F8 IOR_113 (io), G8 IOR_114 (io), G9 IOR_112 (io), H9 IOR_111 (io), J8 IOR_109 (io), J9 IOR_110 (io)
part C pins: E6 CDONE (io) "Configuration Done. Includes a permanent weak pull-up resistor to VCCIO_2. If driving external devices with CDONE output, an external pull-up resistor to VCCIO_2 may be required. Refer to the TN1248, iCE40 Programming and (See Datasheet)", F7 IOB_108_SS_B (io), G4 IOB_81_GBIN5 (io), G5 IOB_103_CBSEL0 (io), G6 IOB_105_SDO (io), G7 IOB_107_SCK (io), H1 IOB_54 (io), H4 IOB_82_GBIN4 (io), H5 IOB_104_CBSEL1 (io), H6 CRESET_B (in) "Configuration Reset, active Low. Dedicated input. No internal pull-up resistor. Either actively drive externally or connect a 10 KOhm pull-up resistor to VCCIO_2.", H7 IOB_106_SDI (io), J1 IOB_55 (io), J2 IOB_56 (io), J3 IOB_57 (io), J4 IOB_70 (io)
part D pins: B1 IOL_3A (io), B2 IOL_2B (io), C1 IOL_3B (io), C2 IOL_2A (io), C3 IOL_7B (io), D1 IOL_10A (io), D2 IOL_7A (io), D3 IOL_13B_GBIN7 (io), E1 IOL_10B (io), E2 IOL_13A (io), E3 IOL_14A_GBIN6 (io), E4 IOL_14B (io), F1 IOL_22A (io), F3 IOL_22B (io), G1 IOL_24B (io), G2 IOL_26A (io), G3 IOL_24A (io), H2 IOL_26B (io)
part E pins: A5 VCCIO_0 (power) "VCCIO - The power supply pins for I/O Bank 0. Dedicated pins. All VCCIOs located in the same bank are tied to the same supply", C6 VCCIO_1 (power) "VCCIO - The power supply pins for I/O Bank 1. Dedicated pins. All VCCIOs located in the same bank are tied to the same supply.", C7 VPP_FAST (power) "Optional fast NVCM programming supply. VPP_FAST, used only for fast production programming, must be left floating or unconnected in applications, except CM36 and CM49 packages MUST have the VPP_FAST ball connected to VCCIO_0 (See Datasheet)", C8 VPP_2V5 (power) "VPP_2V5 NVCM programming and operating supply", D4 VCC (power) "VCC - The power supply pins for core logic. Dedicated pins. It is recommended that all VCCs are tied to the same supply.", E9 VCC (power) "VCC - The power supply pins for core logic. Dedicated pins. It is recommended that all VCCs are tied to the same supply.", F2 VCC (power) "VCC - The power supply pins for core logic. Dedicated pins. It is recommended that all VCCs are tied to the same supply.", F4 GND (power) "GND -Ground. Dedicated pins. It is recommended that all GNDs are tied together", F5 GND (power) "GND -Ground. Dedicated pins. It is recommended that all GNDs are tied together", F6 GND (power) "GND -Ground. Dedicated pins. It is recommended that all GNDs are tied together", F9 GND (power) "GND -Ground. Dedicated pins. It is recommended that all GNDs are tied together", H3 VCCIO_3 (power) "VCCIO - The power supply pins for I/O Bank 3. Dedicated pins. All VCCIOs located in the same bank are tied to the same supply", H8 VCC_SPI (power) "SPI interface voltage supply input. Must have a valid voltage even if configuring from NVCM.", J5 VCCIO_2 (power) "VCCIO - The power supply pins for I/O Bank 2. Dedicated pins. All VCCIOs located in the same bank are tied to the same supply.", J6 GNDPLL0 (power) "PLL GND- Ground. Dedicated pins. The sysCLOCK PLL has the DC ground connection made on the FPGA, so the external PLL ground connection (GNDPLL) must NOT be connected to the board’s ground.", J7 VCCPLL0 (power) "PLL VCC - Power. Dedicated pins. The PLL requires a separate power and ground that is quiet and stable to reduce the output clock jitter of the PLL."
part A text: BANK 0
part B text: BANK 1
part C text: BANK 2
part D text: BANK 3